# Altium integrated library Trinamics Drivers.IntLib: 2 symbols
Pins are listed as number, name and electrical type; pins without a type are passive.

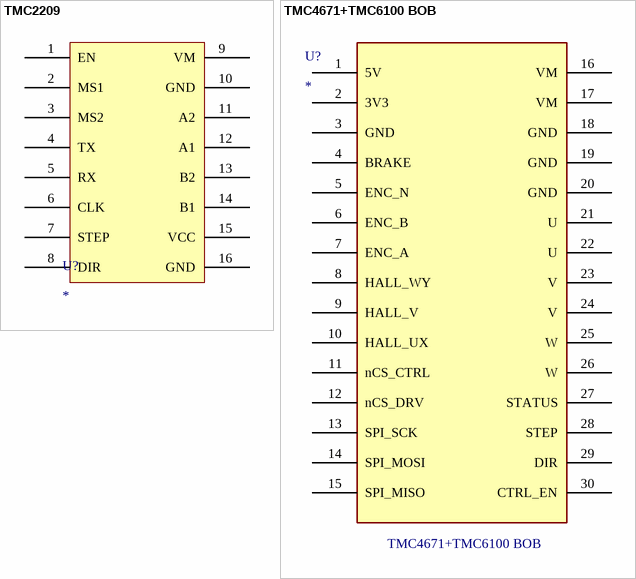
[diagram p0: symbols TMC2209 to TMC4671+TMC6100 BOB]

## TMC2209
designator U?
footprint TMC2209
pins: 1 EN, 2 MS1, 3 MS2, 4 TX, 5 RX, 6 CLK, 7 STEP, 8 DIR, 9 VM, 10 GND, 11 A2, 12 A1, 13 B2, 14 B1, 15 VCC, 16 GND

## TMC4671+TMC6100 BOB
designator U?
footprint TMC4671+TMC6100 BOB
footprint Model Name (Model Description)
footprint Model Name (Model Description)
pins: 1 5V, 2 3V3, 3 GND, 4 BRAKE, 5 ENC_N, 6 ENC_B, 7 ENC_A, 8 HALL_WY, 9 HALL_V, 10 HALL_UX, 11 nCS_CTRL, 12 nCS_DRV, 13 SPI_SCK, 14 SPI_MOSI, 15 SPI_MISO, 16 VM, 17 VM, 18 GND, 19 GND, 20 GND, 21 U, 22 U, 23 V, 24 V, 25 W, 26 W, 27 STATUS, 28 STEP, 29 DIR, 30 CTRL_EN